# Altium footprint library Sensor.PcbLib: 2 footprints
Each footprint in its own frame and in the unit in brackets; x right, y up, seen from the top. Pads: shape width x height; smd on the part's side, far side on the other; paste and mask are expansions set on the pad; w line width, h text height; cw(c..) or ccw(c..) is an arc to the next point about the centre after c.
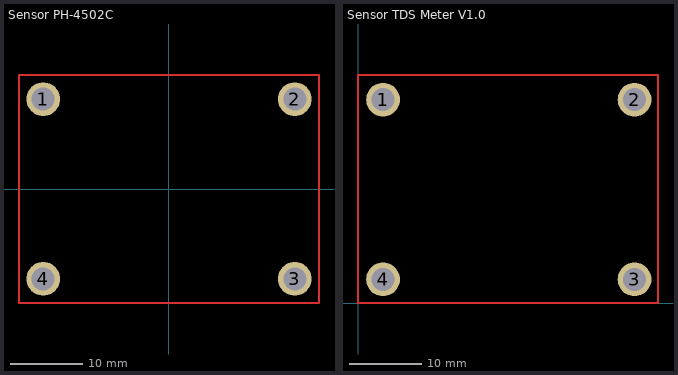
[diagram p0: the footprints below, top view; thin cyan lines are the x and y axes]

## Sensor PH-4502C [mm] "pH Sensor"
pads (4):
  round 4.7 hole 3.2: 1(-17.5,12.5) 2(17.5,12.5) 3(17.5,-12.5) 4(-17.5,-12.5)
Top Layer:
  lines w0.254: -20.873,-15.873 20.873,-15.873 20.873,15.873 -20.873,15.873 -20.873,-15.873
  text "pH Sensor" at -6.731,-2.54 h1.52
3D body "PH-4502C.STEP": height 18.14, standoff -1.88, extent -28.697,-16.128 40.513,16.128

## Sensor TDS Meter V1.0 [mm] "pH Sensor"
pads (4):
  round 4.7 hole 3.2: 1(3.481,28.302) 2(38.481,28.302) 3(38.481,3.302) 4(3.481,3.302)
Top Layer:
  lines w0.254: 0,0 0,31.746 41.746,31.746 41.746,0 0,0
  text "TDS Sensor" at 12.917,13.262 h1.52
3D body "filestep.step": height 7.8, standoff 0, extent -0.127,0 41.873,32